# EAGLE library part LP38692_NGG_6 (library SwitcherPowerStage)
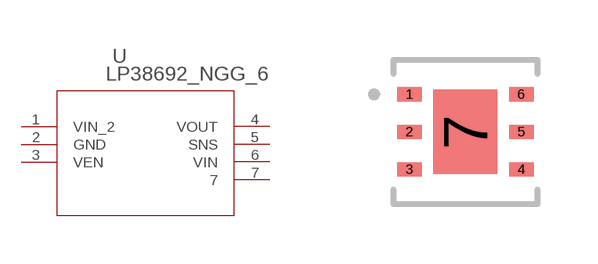
[diagram p1: symbol with the pads of SDE06A; footprint SDE06A]

Designator prefix U

## LP38692_NGG_6 (BASE_PN: LP38692; COMP: TypeLDO; LIBRARY: ReferenceLP38692SD; PARTNUMBER: LP38692SD-18; PIN: Count6; SYMBOL: NameLP38692SD-18; TYPE: LP38692SD-1.8; VENDOR: NationalSemiconductor; VERSION: 1)  [SDE06A]
1  VIN_2  in
2  GND  pas
3  VEN  pas
4  VOUT  out
5  SNS  pas
6  VIN  in
7  7  pas

## Footprint SDE06A (pad centres in mm)
smd 0.61 x 0.356: 1 -1.397,0.94; 2 -1.397,0; 3 -1.397,-0.94; 4 1.397,-0.94; 5 1.397,0; 6 1.397,0.94
smd 1.6 x 2.108: 7 0,0